# EAGLE library part MC33152PG (library ON Semiconductor_By_element14_Batch_1)
Dual MOSFET Drivers
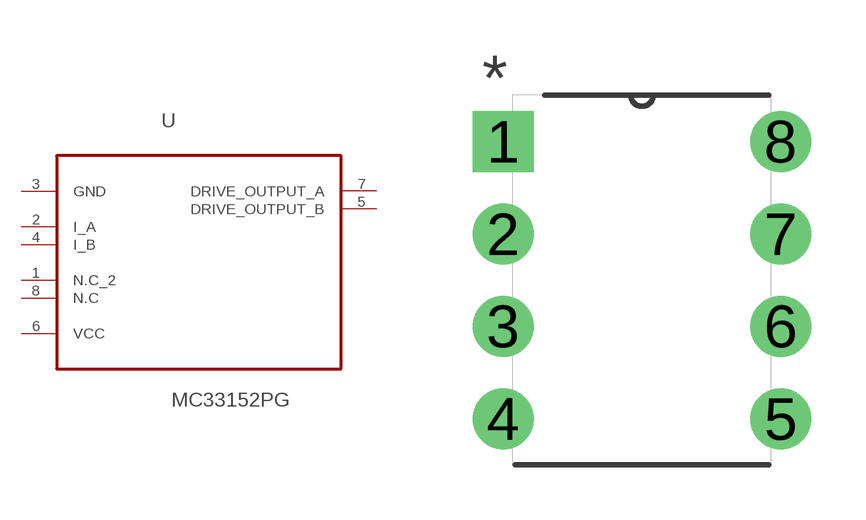
[diagram p347: symbol with the pads of DIP254P762X533-8; footprint DIP254P762X533-8]

Designator prefix U

## MC33152PG (MPN: MC33152PG; OC_FARNELL: 9666788; OC_NEWARK: 45J1167; PACKAGE: PDIP-8; SUPPLIER: On Semiconductors)  [DIP254P762X533-8]
1  N.C_2  nc
2  I_A  in
3  GND  pas
4  I_B  in
5  DRIVE_OUTPUT_B  out
6  VCC  pwr
7  DRIVE_OUTPUT_A  out
8  N.C  nc

## Footprint DIP254P762X533-8 (pad centres in mm)
drill 1.118 square: 1 -7.62,7.62
drill 1.118: 2 -7.62,5.08; 3 -7.62,2.54; 4 -7.62,0; 5 0,0; 6 0,2.54; 7 0,5.08; 8 0,7.62